# EAGLE library part LC4128ZE_XXTN100_S (library lattice_ispMACH4000ZE)
ispMACH 4128ZE TQFP100, Split Lattice Semiconductor Corporation - ispMACH 4000ZE Ultra Low Power, Low Cost CPLD Family Generated using Lattice BSDL models: http://www.latticesemi.com/dynamic/index.cfm?fuseaction=view_documents&document_type=36&sloc=01-01-02-01&source=sidebar
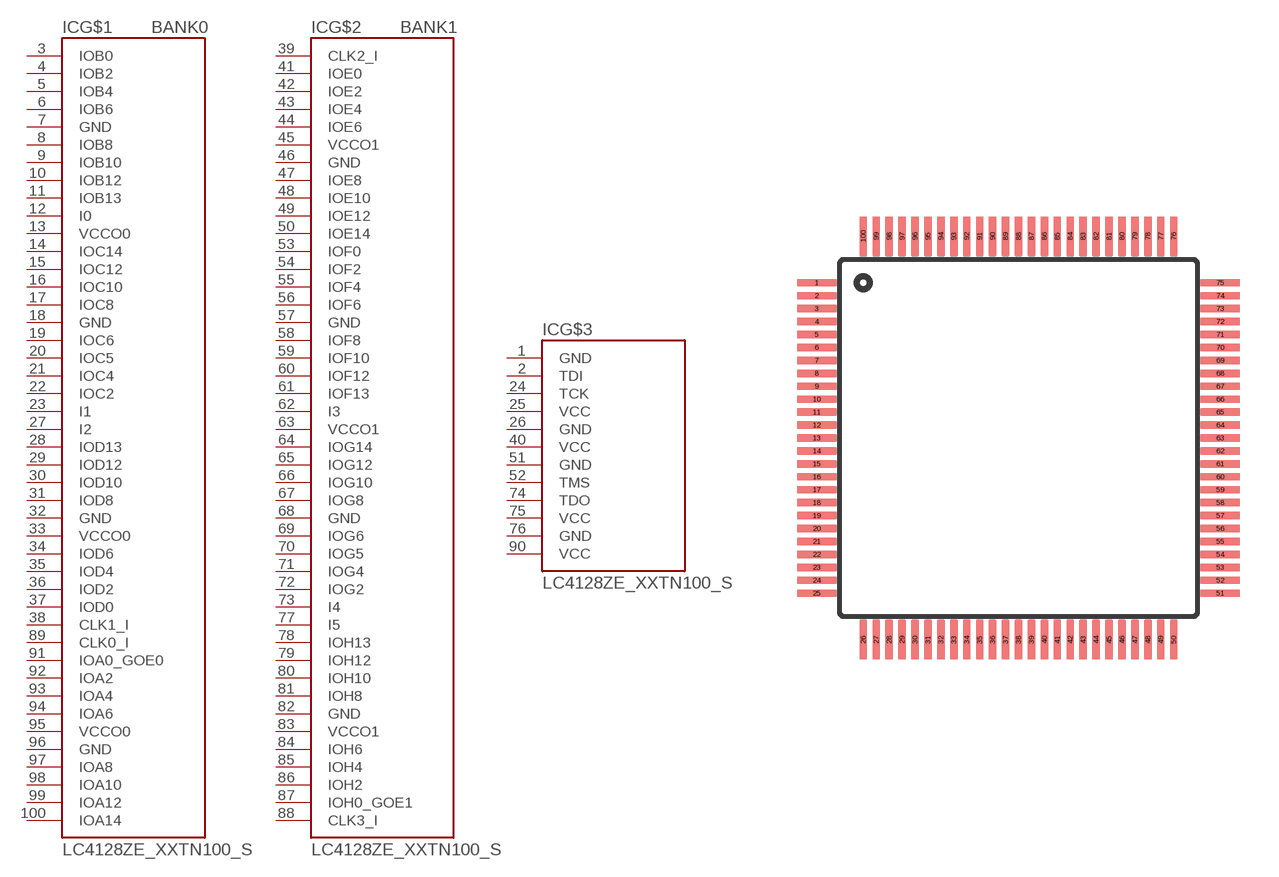
[diagram p21: symbol with the pads of TQFP100; footprint TQFP100]

Designator prefix IC; gates G$1=ISPMACH_LC4128ZE_TN100_PARTA G$2=ISPMACH_LC4128ZE_TN100_PARTB G$3=ISPMACH_LC4128ZE_TN100_PARTC

## LC4128ZE_XXTN100_S  [TQFP100]
1  G$3:GND  pwr
2  G$3:TDI  in
3  G$1:IOB0
4  G$1:IOB2
5  G$1:IOB4
6  G$1:IOB6
7  G$1:GND  pwr
8  G$1:IOB8
9  G$1:IOB10
10  G$1:IOB12
11  G$1:IOB13
12  G$1:I0
13  G$1:VCCO0  pwr
14  G$1:IOC14
15  G$1:IOC12
16  G$1:IOC10
17  G$1:IOC8
18  G$1:GND  pwr
19  G$1:IOC6
20  G$1:IOC5
21  G$1:IOC4
22  G$1:IOC2
23  G$1:I1
24  G$3:TCK  in
25  G$3:VCC  pwr
26  G$3:GND  pwr
27  G$1:I2
28  G$1:IOD13
29  G$1:IOD12
30  G$1:IOD10
31  G$1:IOD8
32  G$1:GND  pwr
33  G$1:VCCO0  pwr
34  G$1:IOD6
35  G$1:IOD4
36  G$1:IOD2
37  G$1:IOD0
38  G$1:CLK1_I  in
39  G$2:CLK2_I  in
40  G$3:VCC  pwr
41  G$2:IOE0
42  G$2:IOE2
43  G$2:IOE4
44  G$2:IOE6
45  G$2:VCCO1  pwr
46  G$2:GND  pwr
47  G$2:IOE8
48  G$2:IOE10
49  G$2:IOE12
50  G$2:IOE14
51  G$3:GND  pwr
52  G$3:TMS  in
53  G$2:IOF0
54  G$2:IOF2
55  G$2:IOF4
56  G$2:IOF6
57  G$2:GND  pwr
58  G$2:IOF8
59  G$2:IOF10
60  G$2:IOF12
61  G$2:IOF13
62  G$2:I3
63  G$2:VCCO1  pwr
64  G$2:IOG14
65  G$2:IOG12
66  G$2:IOG10
67  G$2:IOG8
68  G$2:GND  pwr
69  G$2:IOG6
70  G$2:IOG5
71  G$2:IOG4
72  G$2:IOG2
73  G$2:I4
74  G$3:TDO  out
75  G$3:VCC  pwr
76  G$3:GND  pwr
77  G$2:I5
78  G$2:IOH13
79  G$2:IOH12
80  G$2:IOH10
81  G$2:IOH8
82  G$2:GND  pwr
83  G$2:VCCO1  pwr
84  G$2:IOH6
85  G$2:IOH4
86  G$2:IOH2
87  G$2:IOH0_GOE1
88  G$2:CLK3_I  in
89  G$1:CLK0_I  in
90  G$3:VCC  pwr
91  G$1:IOA0_GOE0
92  G$1:IOA2
93  G$1:IOA4
94  G$1:IOA6
95  G$1:VCCO0  pwr
96  G$1:GND  pwr
97  G$1:IOA8
98  G$1:IOA10
99  G$1:IOA12
100  G$1:IOA14

## Footprint TQFP100 (pad centres in mm)
TQFP - 100 http://www.latticesemi.com/lit/docs/package/pkg.pdf
smd 1.5 x 0.285: 1 -7.8,6; 2 -7.8,5.5; 3 -7.8,5; 4 -7.8,4.5; 5 -7.8,4; 6 -7.8,3.5; 7 -7.8,3; 8 -7.8,2.5; 9 -7.8,2; 10 -7.8,1.5; 11 -7.8,1; 12 -7.8,0.5; 13 -7.8,0; 14 -7.8,-0.5; 15 -7.8,-1; 16 -7.8,-1.5; 17 -7.8,-2; 18 -7.8,-2.5; 19 -7.8,-3; 20 -7.8,-3.5; 21 -7.8,-4; 22 -7.8,-4.5; 23 -7.8,-5; 24 -7.8,-5.5; 25 -7.8,-6; 51 7.8,-6; 52 7.8,-5.5; 53 7.8,-5; 54 7.8,-4.5; 55 7.8,-4; 56 7.8,-3.5; 57 7.8,-3; 58 7.8,-2.5; 59 7.8,-2; 60 7.8,-1.5; 61 7.8,-1; 62 7.8,-0.5; 63 7.8,0; 64 7.8,0.5; 65 7.8,1; 66 7.8,1.5; 67 7.8,2; 68 7.8,2.5; 69 7.8,3; 70 7.8,3.5; 71 7.8,4; 72 7.8,4.5; 73 7.8,5; 74 7.8,5.5; 75 7.8,6
smd 0.285 x 1.5: 26 -6,-7.8; 27 -5.5,-7.8; 28 -5,-7.8; 29 -4.5,-7.8; 30 -4,-7.8; 31 -3.5,-7.8; 32 -3,-7.8; 33 -2.5,-7.8; 34 -2,-7.8; 35 -1.5,-7.8; 36 -1,-7.8; 37 -0.5,-7.8; 38 0,-7.8; 39 0.5,-7.8; 40 1,-7.8; 41 1.5,-7.8; 42 2,-7.8; 43 2.5,-7.8; 44 3,-7.8; 45 3.5,-7.8; 46 4,-7.8; 47 4.5,-7.8; 48 5,-7.8; 49 5.5,-7.8; 50 6,-7.8; 76 6,7.8; 77 5.5,7.8; 78 5,7.8; 79 4.5,7.8; 80 4,7.8; 81 3.5,7.8; 82 3,7.8; 83 2.5,7.8; 84 2,7.8; 85 1.5,7.8; 86 1,7.8; 87 0.5,7.8; 88 0,7.8; 89 -0.5,7.8; 90 -1,7.8; 91 -1.5,7.8; 92 -2,7.8; 93 -2.5,7.8; 94 -3,7.8; 95 -3.5,7.8; 96 -4,7.8; 97 -4.5,7.8; 98 -5,7.8; 99 -5.5,7.8; 100 -6,7.8